# Altium footprint library PcbLib2.PcbLib: 25 footprints (part 1 of 2)
Each footprint in its own frame and in the unit in brackets; x right, y up, seen from the top. Pads: shape width x height; smd on the part's side, far side on the other; paste and mask are expansions set on the pad; w line width, h text height; cw(c..) or ccw(c..) is an arc to the next point about the centre after c.
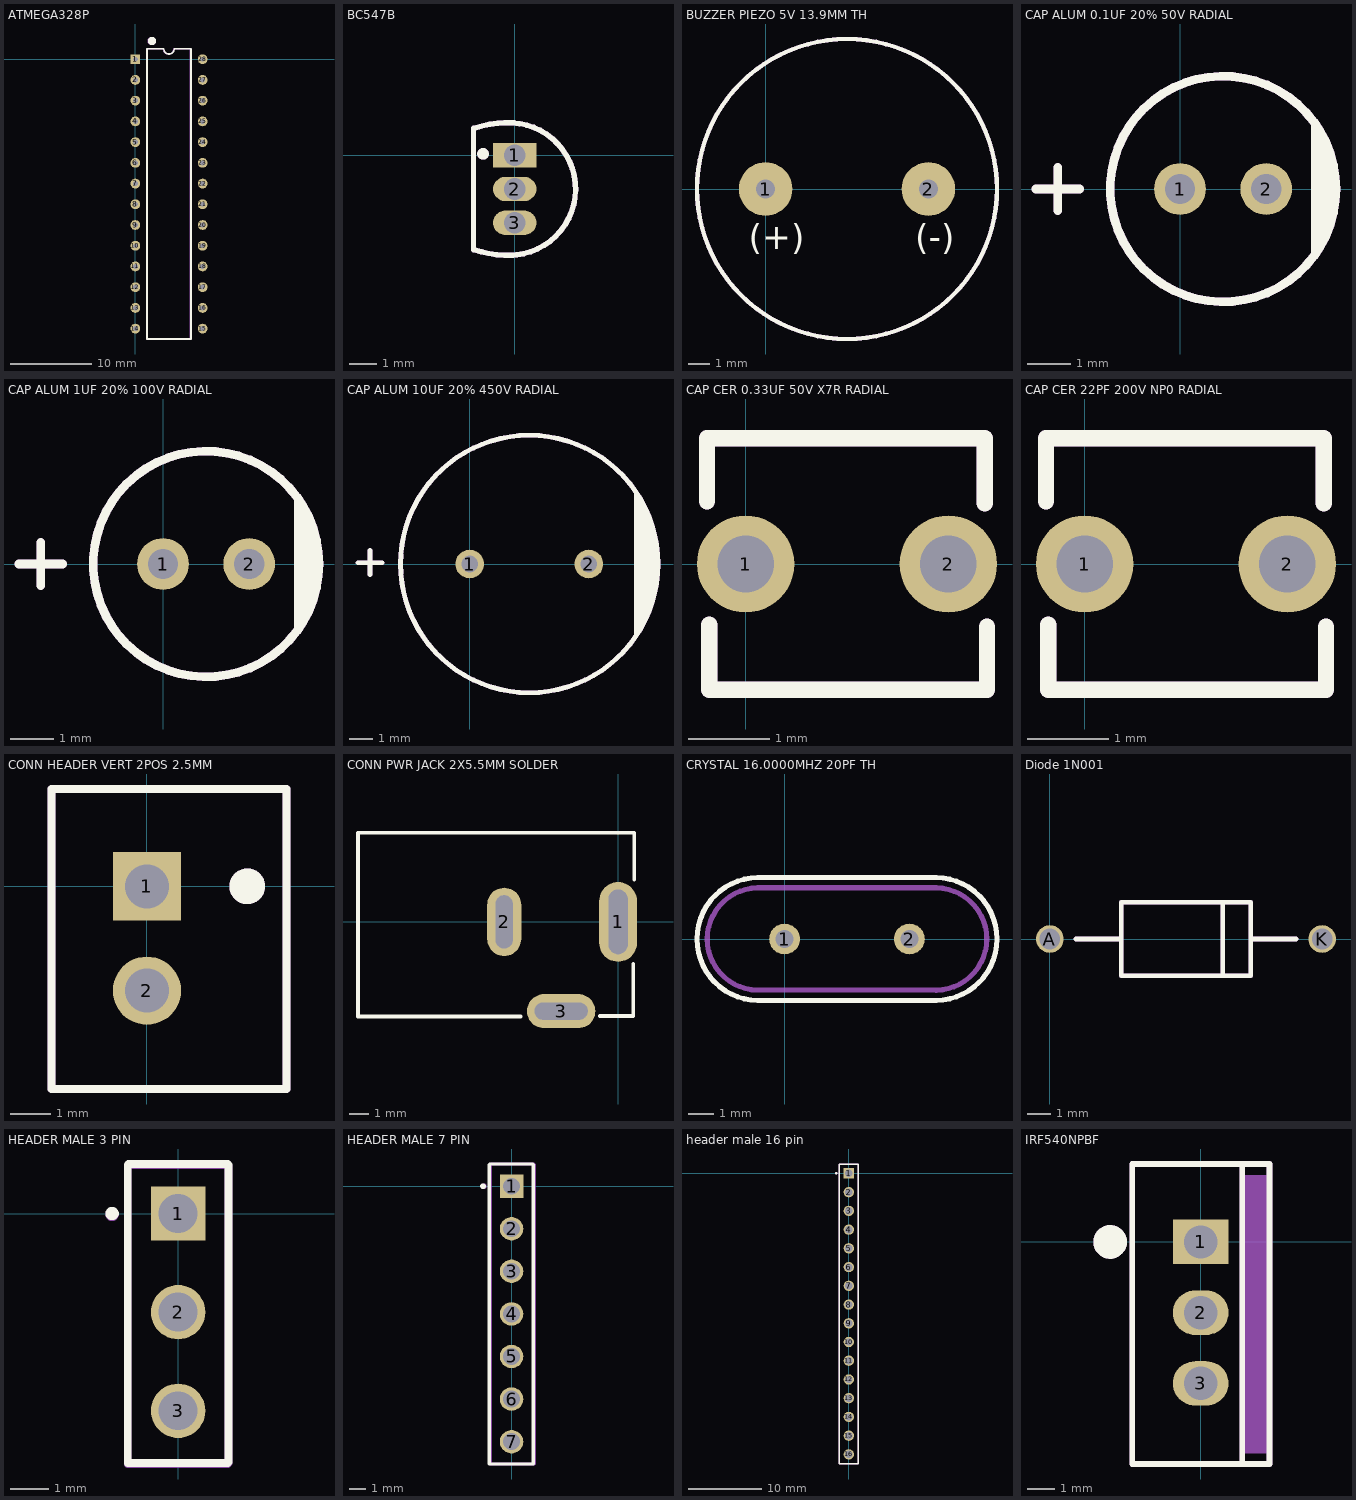
[diagram p0: the footprints below, top view; thin cyan lines are the x and y axes]

## ATMEGA328P [mm]
pads (28):
  rect 1.2x1.2 hole 0.6: 1(0,0)
  round 1.2 hole 0.6: 2(0,-2.54) 3(0,-5.08) 4(0,-7.62) 5(0,-10.16) 6(0,-12.7) 7(0,-15.24) 8(0,-17.78) 9(0,-20.32) 10(0,-22.86) 11(0,-25.4) 12(0,-27.94) 13(0,-30.48) 14(0,-33.02) 15(8.255,-33.02) 16(8.255,-30.48) 17(8.255,-27.94) 18(8.255,-25.4) 19(8.255,-22.86) 20(8.255,-20.32) 21(8.255,-17.78) 22(8.255,-15.24) 23(8.255,-12.7) 24(8.255,-10.16) 25(8.255,-7.62) 26(8.255,-5.08) 27(8.255,-2.54) 28(8.255,0)
Top Overlay:
  circle w0.5: c2.05,2.225 r0.251
  lines w0.2: 1.435,-34.29 6.82,-34.29 6.82,1.27 4.763,1.27 cw(c4.127,1.27) 3.492,1.27 1.435,1.27 1.435,-34.29
Top Assembly:
  circle w0.5: c2,2.225 r0.251
  lines w0.2: 1.385,-34.29 6.77,-34.29 6.77,1.27 4.713,1.27 cw(c4.078,1.27) 3.443,1.27 1.385,1.27 1.385,-34.29
  text "'.Designator'" at 4.983,-27.755 h2
3D body "ATMEGA328P-PU--3DModel-STEP-56544.STEP": height 4.08, standoff -3.92, extent 0.203,-33.895 8.103,0.776

## BC547B [mm]
pads (3):
  rect 1.6x0.9 hole 0.8: 1(0,0)
  oval 1.6x0.9 hole 0.8: 2(0,-1.25) 3(0,-2.5)
Top Overlay:
  circle w0.25: c-1.175,0.05 r0.09
  lines w0.2: -1.525,1.001 -1.525,-3.491 ccw(c-0.25,0.3) -0.075,-3.696 ; -1.497,1.001 cw(c-0.25,-2.8) -0.04,1.194 ; -0.365,1.194 cw(c-0.2,-1.25) -0.2,-3.7
Top Assembly:
  circle w0.25: c-1.175,0.05 r0.09
  lines w0.2: -1.525,1.001 -1.525,-3.491 ccw(c-0.25,0.3) -0.075,-3.696 ; -1.497,1.001 cw(c-0.25,-2.8) -0.04,1.194 ; -0.365,1.194 cw(c-0.2,-1.25) -0.2,-3.7
  text "'.Designator'" at 0.725,-8.023 h1.2
3D body "BC547B.STEP": height 5.43, standoff -15.52, extent -1.42,-3.605 2.2,1.155

## BUZZER PIEZO 5V 13.9MM TH [mm]
pads (2):
  round 2.5 hole 0.9: 1(0,0) 2(7.6,0)
Top Overlay:
  circle w0.2: c3.8,0 r7
  text "(+)" at -0.783,-3.203 h2
  text "(-)" at 6.974,-3.203 h2
Top Assembly:
  circle w0.2: c3.8,0 r7
  text "'.Designator'" at -2.998,-0.5 h1.2
  text "(+)" at -0.783,-3.203 h2
  text "(-)" at 6.974,-3.203 h2
3D body "buzzer.STEP": height 7.6, standoff -5.5, extent -3.15,-6.95 10.75,6.95

## CAP ALUM 0.1UF 20% 50V RADIAL [mm]
pads (2):
  round 1.2 hole 0.7: 1(0,0) 2(2,0)
Top Overlay:
  circle w0.2: c1,0 r2.62
  region: 3.262,1.362 3.05,1.575 3.05,-1.6 3.5,-0.875 3.62,0.63 3.5,0.75
  lines w0.2: -3.343,0 -2.327,0 ; -2.835,-0.508 -2.835,0.508
Top Assembly:
  circle w0.2: c1,0 r2.62
  lines w0.2: -3.343,0 -2.327,0 ; -2.835,-0.508 -2.835,0.508
  text "'.Designator'" at -5.798,-0.5 h1.2
3D body "CAP_UEP_5X11_NCH.step": height 12.61, standoff -3.96, extent -1.588,-2.55 3.617,2.62

## CAP ALUM 1UF 20% 100V RADIAL [mm]
pads (2):
  round 1.2 hole 0.7: 1(0,0) 2(2,0)
Top Overlay:
  circle w0.2: c1,0 r2.62
  region: 3.262,1.362 3.05,1.575 3.05,-1.6 3.5,-0.875 3.62,0.63 3.5,0.75
  lines w0.2: -3.343,0 -2.327,0 ; -2.835,-0.508 -2.835,0.508
Top Assembly:
  circle w0.2: c1,0 r2.62
  region: 3.262,1.362 3.05,1.575 3.05,-1.6 3.5,-0.875 3.62,0.63 3.5,0.75
  lines w0.2: -3.343,0 -2.327,0 ; -2.835,-0.508 -2.835,0.508
  text "'.Designator'" at -5.798,-0.5 h1.2
3D body "CAP_UEP_5X11_NCH.step": height 12.61, standoff -3.96, extent -1.588,-2.55 3.617,2.62

## CAP ALUM 10UF 20% 450V RADIAL [mm]
pads (2):
  round 1.2 hole 0.7: 1(0,0) 2(5,0)
Top Overlay:
  circle w0.2: c2.5,0 r5.4
  region: 7.675,1.425 6.9,3.225 6.9,-3.225 7.838,-1.227 7.838,0.738
  lines w0.2: -4.683,0.05 -3.667,0.05 ; -4.175,-0.45 -4.175,0.566
Top Assembly:
  circle w0.2: c2.5,0 r5.4
  region: 7.675,1.425 6.9,3.225 6.9,-3.225 7.838,-1.227 7.838,0.738
  lines w0.2: -4.683,0.05 -3.667,0.05 ; -4.175,-0.45 -4.175,0.566
  text "'.Designator'" at -8.83,-0.833 h2
3D body "CAP_BX_10x20_RUB.step": height 22.11, standoff -4.27, extent -2.745,-5.245 7.769,5.245

## CAP CER 0.33UF 50V X7R RADIAL [mm]
pads (2):
  round 1.2 hole 0.7: 1(0,0) 2(2.5,0)
Top Overlay:
  lines w0.2: -0.475,0.775 -0.475,1.55 2.95,1.55 ; -0.45,-1.55 2.975,-1.55 2.975,-0.775 ; -0.45,-1.525 -0.45,-0.75 ; 2.95,0.75 2.95,1.525
Top Assembly:
  lines w0.2: -0.475,0.775 -0.475,1.55 2.95,1.55 ; -0.45,-1.55 2.975,-1.55 2.975,-0.775 ; -0.45,-1.525 -0.45,-0.75 ; 2.95,0.75 2.95,1.525
  text "'.Designator'" at -5.598,-0.525 h1.2
3D body "22pf cap3.STEP": height 5.3, standoff -2.01, extent -0.293,-1.035 2.791,1.035

## CAP CER 22PF 200V NP0 RADIAL [mm]
pads (2):
  round 1.2 hole 0.7: 1(0,0) 2(2.5,0)
Top Overlay:
  lines w0.2: -0.475,0.775 -0.475,1.55 2.95,1.55 ; -0.45,-1.55 2.975,-1.55 2.975,-0.775 ; -0.45,-1.525 -0.45,-0.75 ; 2.95,0.75 2.95,1.525
Top Assembly:
  lines w0.2: -0.475,0.775 -0.475,1.55 2.95,1.55 ; -0.45,-1.55 2.975,-1.55 2.975,-0.775 ; -0.45,-1.525 -0.45,-0.75 ; 2.95,0.75 2.95,1.525
  text "'.Designator'" at -5.598,-0.525 h1.2
3D body "22pf cap3.STEP": height 5.3, standoff -2.01, extent -0.293,-1.035 2.791,1.035

## CONN HEADER VERT 2POS 2.5MM [mm]
pads (2):
  rect 1.7x1.7 hole 1.1: 1(0,0)
  round 1.7 hole 1.1: 2(0,-2.6)
Top Overlay:
  circle w0.5: c2.5,0 r0.195
  lines w0.2: -2.375,-5.05 -2.375,2.425 3.475,2.425 3.475,-5.05 -2.375,-5.05
Top Assembly:
  circle w0.5: c2.5,0 r0.195
  lines w0.2: -2.375,-5.05 -2.375,2.425 3.475,2.425 3.475,-5.05 -2.375,-5.05
  text "'.Designator'" at 0.5,-8.098 h1.2
3D body "B2B-XH-A-LF--SN---3DModel-STEP-269445.STEP": height 7.01, standoff -3.39, extent -2.325,-5 3.425,2.4

## CONN PWR JACK 2X5.5MM SOLDER [mm]
pads (3):
  oval 2x4.2 hole 1 slot 3.4 at 90 deg: 1(0,0)
  oval 1.8x3.6 hole 0.9 slot 2.8 at 90 deg: 2(-6,0)
  oval 3.6x1.8 hole 0.9 slot 2.8 at 0 deg: 3(-3,-4.7)
Top Overlay:
  lines w0.2: -5.125,-4.975 -13.7,-4.975 -13.7,4.7 0.85,4.7 0.85,2.225 ; -0.95,-4.95 0.8,-4.95 0.8,-2.2
3D body "PJ-002A--3DModel-STEP-56544.STEP": height 11.1, standoff -3.4, extent -13.7,-4.825 0.7,4.575

## CRYSTAL 16.0000MHZ 20PF TH [mm]
pads (2):
  round 1.2 hole 0.7: 1(0,0) 2(4.88,0)
Top Overlay:
  lines w0.2: -1.052,-2.4 cw(c-1.02,0) -1.05,2.4 ; -1.045,2.4 5.9,2.4 ; -1.02,-2.4 5.925,-2.4 ; 5.93,-2.4 ccw(c5.9,0) 5.932,2.4
Top Assembly:
  lines w0.2: 5.925,-2 ccw(c5.9,0) 5.927,2 ; 5.925,-2 -1.047,-2 cw(c-1.02,0) -1.045,2 5.927,2 ; 5.925,-2 5.925,-2 ; 5.927,2 5.927,2
  text "'.Designator'" at -4.398,-0.5 h1.2
3D body "crystall.STEP": height 3.69, standoff -12.69, extent -2.985,-2.25 7.865,2.25

## Diode 1N001 [mm]
pads (2):
  round 1.2 hole 0.9: A(0,0) K(11.8,0)
Top Overlay:
  lines w0.2: 1.125,0 3.1,0 ; 7.5,-1.5 7.5,1.5 ; 8.7,0 10.675,0 ; 3.1,-1.6 3.1,1.6 8.7,1.6 8.7,-1.6 3.1,-1.6
Top Assembly:
  lines w0.2: 1.125,0 3.1,0 ; 7.5,-1.5 7.5,1.5 ; 8.7,0 10.675,0 ; 3.1,-1.6 3.1,1.6 8.7,1.6 8.7,-1.6 3.1,-1.6
  text "'.Designator'" at -5.93,-0.833 h2
3D body "diode 14001.SLDPRT": height 3.4, standoff -3.99, extent -0.4,-1.483 12.294,1.483

## HEADER MALE 3 PIN [mm]
pads (3):
  rect 1.4x1.4 hole 1: 1(0,0)
  round 1.4 hole 1: 2(0,-2.54) 3(0,-5.08)
Top Overlay:
  circle w0.2: c-1.7,0 r0.071
  lines w0.2: -1.3,-6.425 -1.3,1.25 -1.275,1.275 1.275,1.275 1.3,1.25 1.3,-6.4 1.275,-6.425 -1.3,-6.425
Top Assembly:
  circle w0.2: c-1.7,-0.025 r0.071
  lines w0.2: -1.3,-6.45 -1.3,1.225 -1.275,1.25 1.275,1.25 1.3,1.225 1.3,-6.425 1.275,-6.45 -1.3,-6.45
  text "'.Designator'" at 0.475,-9.348 h1.2
3D body "3 pin header.STEP": height 8.35, standoff -3.04, extent -1.27,-6.37 1.27,1.25

## HEADER MALE 7 PIN [mm]
pads (7):
  rect 1.4x1.4 hole 1: 1(0,0)
  round 1.4 hole 1: 2(0,-2.54) 3(0,-5.08) 4(0,-7.62) 5(0,-10.16) 6(0,-12.7) 7(0,-15.24)
Top Overlay:
  circle w0.2: c-1.7,0 r0.071
  lines w0.2: -1.325,-16.575 1.3,-16.575 1.3,1.275 1.25,1.325 -1.275,1.325 -1.325,1.275 -1.325,-16.575
Top Assembly:
  circle w0.2: c-1.65,0 r0.071
  lines w0.2: -1.275,-16.575 1.35,-16.575 1.35,1.275 1.3,1.325 -1.225,1.325 -1.275,1.275 -1.275,-16.575
  text "'.Designator'" at 0.525,-14.398 h1.2
3D body "7 pin header.STEP": height 8.49, standoff -2.9, extent -1.27,-16.53 1.27,1.25

## header male 16 pin [mm]
pads (16):
  rect 1.4x1.4 hole 1: 1(0,0)
  round 1.4 hole 1: 2(0,-2.54) 3(0,-5.08) 4(0,-7.62) 5(0,-10.16) 6(0,-12.7) 7(0,-15.24) 8(0,-17.78) 9(0,-20.32) 10(0,-22.86) 11(0,-25.4) 12(0,-27.94) 13(0,-30.48) 14(0,-33.02) 15(0,-35.56) 16(0,-38.1)
Top Overlay:
  circle w0.2: c-1.7,0 r0.071
  lines w0.2: -1.3,-39.4 1.275,-39.4 1.275,1.275 -1.275,1.275 -1.3,1.25 -1.3,-39.4
Top Assembly:
  circle w0.2: c-1.7,0 r0.071
  lines w0.2: -1.3,-39.4 1.275,-39.4 1.275,1.275 -1.275,1.275 -1.3,1.25 -1.3,-39.4
  text "'.Designator'" at 0.525,-26.048 h1.2
3D body "16 pin header.STEP": height 8.49, standoff -2.9, extent -1.27,-39.39 1.27,1.25

## IRF540NPBF [mm]
pads (3):
  rect 2x1.6 hole 1.2: 1(0,0)
  oval 2x1.6 hole 1.2: 2(0,-2.54) 3(0,-5.08)
Top Overlay:
  circle w0.61: c-3.25,0 r0.3
  lines w0.2: 1.49,-7.975 2.475,-7.975 2.475,2.8 1.5,2.8 1.5,-7.975 -2.45,-7.975 -2.45,2.8 2.08,2.8
Top Assembly:
  circle w0.61: c-3.25,0 r0.3
  rectangle: 1.5,-7.6 2.5,2.4
  lines w0.2: 1.49,-7.975 2.475,-7.975 2.475,2.8 1.5,2.8 1.5,-7.975 -2.45,-7.975 -2.45,2.8 2.08,2.8
  text "'.Designator'" at 0,-9.423 h1.2
3D body "TO-220AB_LTO.step": height 15.75, standoff -6.3, extent -2.325,-7.851 2.375,2.691